# Altium schematic symbol library Net tie.Schlib: 1 symbol
Pins are listed as number, name and electrical type; pins without a type are passive.

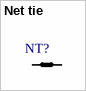
[diagram p0: symbol Net tie]

## Net tie
designator NT?  (value not drawn)
=description
pins: 1, 2